# Altium footprint library ADP_Passive.PcbLib: 48 footprints (part 1 of 3)
Each footprint in its own frame and in the unit in brackets; x right, y up, seen from the top. Pads: shape width x height; smd on the part's side, far side on the other; paste and mask are expansions set on the pad; w line width, h text height; cw(c..) or ccw(c..) is an arc to the next point about the centre after c.
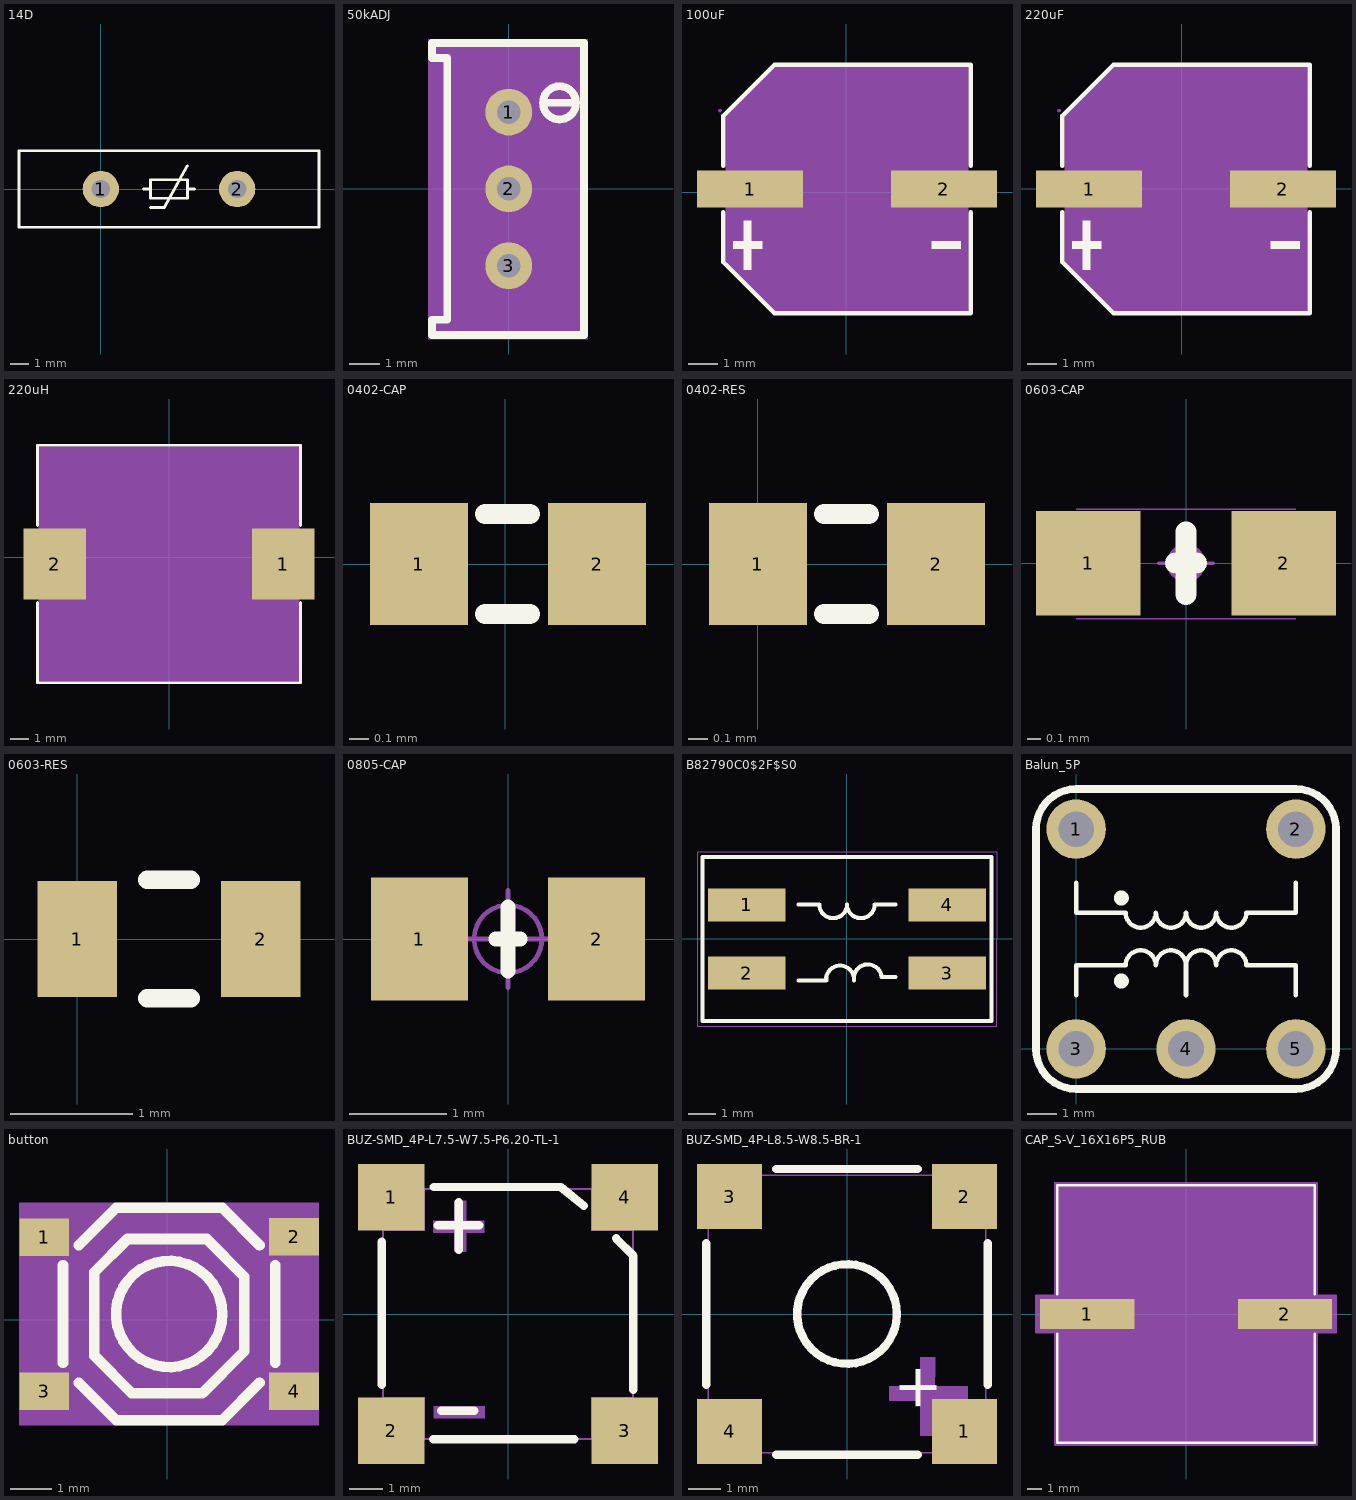
[diagram p0: the footprints below, top view; thin cyan lines are the x and y axes]

## 14D [mm]
pads (2):
  round 2 hole 1: 1(0,0) 2(7.5,0)
Top Overlay:
  lines w0.152: 2.353,0 2.734,0 ; 2.734,-1.016 3.496,-1.016 4.766,1.27 ; 4.766,0 5.147,0 ; -4.5,-2.1 -4.5,2.1 12,2.1 12,-2.1 -4.5,-2.1 ; 2.734,-0.508 4.766,-0.508 4.766,0.508 2.734,0.508 2.734,-0.508

## 50kADJ [mil]
pads (3):
  round 60 hole 30: 1(0,98.42) 2(0,0) 3(0,-98.42)
Top Overlay:
  lines w10: 50,110.39 65,110.39 ; 86.2,109.99 cw(c64.99,110.19) 86.2,110.4 ; 96.46,-187.22 -96.46,-187.22 -98.42,-187.22 -98.42,-167.52 -78.74,-167.52 -78.74,167.52 -98.42,167.52 -98.42,187.01 -96.46,187.01 96.46,187.01 96.46,-187.01 ; 65,110.39 80,110.39 65,110.39
Mechanical 4:
  region: -103.42,192.01 101.46,192.01 101.46,-192.22 -103.42,-192.22
Mechanical 5:
  region: -30,-68.42 30,-68.42 30,-128.43 -30,-128.43
  region: -30,128.43 30,128.43 30,68.42 -30,68.42
  region: -30,30 30,30 30,-30 -30,-30
Mechanical 15:
  lines w0.1: -1.98,14.34 0.02,16.34

## 100uF [mm]
pads (2):
  rect 3.61x1.26 smd: 1(-3.275,0.111) 2(3.315,0.111)
Top Overlay:
  region: -3.483,-0.968 -3.483,-2.628 -3.234,-2.628 -3.234,-0.968
  region: -3.856,-1.673 -3.856,-1.922 -2.86,-1.922 -2.86,-1.673
  region: 3.896,-1.673 3.896,-1.922 2.9,-1.922 2.9,-1.673
  lines w0.152: -4.181,-0.671 -4.181,-2.379 -2.445,-4.115 4.221,-4.115 4.221,-0.671 ; -4.181,0.894 -4.181,2.601 -2.445,4.338 4.221,4.338 4.221,0.894
Mechanical 4:
  region: 4.145,4.261 4.145,-4.039 -2.445,-4.039 -4.105,-2.379 -4.105,2.601 -2.445,4.261
Mechanical 5:
  region: -4.48,0.561 -4.48,-0.339 -1.53,-0.339 -1.53,0.561
  region: 4.52,0.561 4.52,-0.339 1.57,-0.339 1.57,0.561
Mechanical 6:
  circle w0.06: c-4.298,2.778 r0.03
Mechanical 15:
  region: -3.483,0.941 -3.483,-0.719 -3.234,-0.719 -3.234,0.941
  region: -3.856,0.236 -3.856,-0.013 -2.86,-0.013 -2.86,0.236
  region: 3.896,0.236 3.896,-0.013 2.9,-0.013 2.9,0.236

## 220uF [mm]
pads (2):
  rect 3.61x1.26 smd: 1(-3.148,-0.016) 2(3.442,-0.016)
Top Overlay:
  region: -3.356,-1.095 -3.356,-2.755 -3.107,-2.755 -3.107,-1.095
  region: -3.729,-1.8 -3.729,-2.049 -2.733,-2.049 -2.733,-1.8
  region: 4.023,-1.8 4.023,-2.049 3.027,-2.049 3.027,-1.8
  lines w0.152: -4.054,-0.798 -4.054,-2.506 -2.318,-4.242 4.348,-4.242 4.348,-0.798 ; -4.054,0.767 -4.054,2.474 -2.318,4.211 4.348,4.211 4.348,0.767
Mechanical 4:
  region: 4.272,4.134 4.272,-4.166 -2.318,-4.166 -3.978,-2.506 -3.978,2.474 -2.318,4.134
Mechanical 5:
  region: -4.353,0.434 -4.353,-0.466 -1.403,-0.466 -1.403,0.434
  region: 4.647,0.434 4.647,-0.466 1.697,-0.466 1.697,0.434
Mechanical 6:
  circle w0.06: c-4.171,2.651 r0.03
Mechanical 15:
  region: -3.356,0.814 -3.356,-0.846 -3.107,-0.846 -3.107,0.814
  region: -3.729,0.109 -3.729,-0.14 -2.733,-0.14 -2.733,0.109
  region: 4.023,0.109 4.023,-0.14 3.027,-0.14 3.027,0.109

## 220uH [mm]
pads (2):
  rect 3.424x3.92 smd: 1(6.267,-0.383) 2(-6.289,-0.383)
Top Overlay:
  lines w0.152: -7.237,-2.495 -7.237,-6.909 7.215,-6.909 7.215,-2.495 ; -7.237,1.73 -7.237,6.144 7.215,6.144 7.215,1.73
Mechanical 4:
  region: -7.161,-6.833 -7.161,6.067 7.139,6.067 7.139,-6.833
Mechanical 5:
  region: 7.139,-2.133 7.139,1.367 4.639,1.367 4.639,-2.133
  region: -7.161,-2.133 -7.161,1.367 -4.661,1.367 -4.661,-2.133
Mechanical 6:
  circle w0.06: c-7.161,-6.833 r0.03
Mechanical 15:
  lines w0.003: -0.036,0.006 0.014,0.056

## 0402-CAP [mm] "无极性贴片电容"
height 0.5
pads (2):
  rect 0.5x0.62 smd: 1(-0.44,0) 2(0.47,0)
Top Overlay:
  lines w0.102: -0.102,-0.254 0.127,-0.254 ; -0.102,0.254 0.127,0.254
3D body "CAPCP1005X05N.step": height 0.5, standoff 0, extent -0.525,-0.275 0.525,0.275

## 0402-RES [mm] "Chip Resistor, 2-Leads, Body 1.00x0.50mm, IPC Medium Density"
height 0.5
pads (2):
  rect 0.5x0.62 smd: 1(0,0) 2(0.91,0)
Top Overlay:
  lines w0.102: 0.338,-0.254 0.567,-0.254 ; 0.338,0.254 0.567,0.254
3D body "RESC1005X05N.step": height 0.5, standoff 0, extent -0.072,-0.275 0.978,0.275

## 0603-CAP [mil] "无极性贴片电容"
pads (2):
  rect 30x30 smd mask+2: 1(-28,0) 2(28,0)
Top Overlay:
  lines w6: -3,0 0,0 3,0 ; 0,-9 0,9
Mechanical 13:
  lines w0.39: -31.5,-16 31.5,-16 ; -31.5,15.5 31.5,15.5
Mechanical 15:
  circle w1: c0,0 r5
  lines w1: -7.87,0 7.87,0 ; 0,-7.87 0,7.87
3D body "C 0603.STEP": height 31.89, standoff -0.39, extent -31.5,-16.14 31.5,16.14

## 0603-RES [mm]
height 0.35
pads (2):
  rect 0.65x0.95 smd: 1(0,0) 2(1.5,0)
Top Overlay:
  lines w0.152: 0.572,-0.483 0.928,-0.483 ; 0.572,0.483 0.928,0.483
3D body "0603-res.step": height 0.35, standoff 0, extent -0.125,-0.475 1.625,0.475

## 0805-CAP [mm] "无极性贴片电容"
height 0.5
pads (2):
  rect 1x1.27 smd: 1(-0.914,0) 2(0.914,0)
Top Overlay:
  lines w0.152: -0.127,0 0,0 0.127,0 ; 0,-0.33 0,0.33
Mechanical 15:
  circle w0.05: c0,0 r0.35
  lines w0.05: -0.5,0 0.5,0 ; 0,-0.5 0,0.5
3D body "C 0805.STEP": height 0.51, standoff -0.01, extent -1,-0.61 1,0.61

## B82790C0$2F$S0 [mm]
height 6
pads (4):
  rect 2.85x1.2 smd mask+0.05: 1(-3.675,1.25) 2(-3.675,-1.25) 3(3.675,-1.25) 4(3.675,1.25)
Top Overlay:
  lines w0.013: -5.3,-3 -5.3,3 5.3,3 5.3,-3 -5.3,-3
  lines w0.15: -1.778,-1.524 -0.762,-1.524 cw(c-0.254,-1.485) 0.254,-1.524 0.254,-1.365 cw(c0.76,-1.444) 1.27,-1.4 1.778,-1.4 ; -1.778,1.27 -1.016,1.27 ccw(c-0.508,1.27) 0,1.27 ccw(c0.508,1.27) 1.016,1.27 1.778,1.27 ; -5.3,-3 -5.3,3 5.3,3 5.3,-3 -5.3,-3
Mechanical 1:
  lines w0.013: -5.5,-3.2 -5.5,3.2 5.5,3.2 5.5,-3.2 -5.5,-3.2

## Balun_5P [mm]
pads (5):
  round 2 hole 1.2: 1(0,7.4) 2(7.4,7.4) 3(0,0) 4(3.7,0) 5(7.4,0)
Top Overlay:
  circle w0.3: c1.524,5.08 r0.1
  circle w0.3: c1.524,2.286 r0.1
  lines w0.152: 0,1.811 0,2.811 1.668,2.811 cw(c2.176,2.811) 2.684,2.811 cw(c3.192,2.811) 3.7,2.811 ; 0,5.589 0,4.589 1.668,4.589 ccw(c2.176,4.589) 2.684,4.589 ccw(c3.192,4.589) 3.7,4.589 ccw(c4.208,4.589) 4.716,4.589 ccw(c5.224,4.589) 5.732,4.589 7.4,4.589 7.4,5.589 ; 3.7,1.811 3.7,2.811 ; 7.4,1.811 7.4,2.811 5.732,2.811 ccw(c5.224,2.811) 4.716,2.811 ccw(c4.208,2.811) 3.7,2.811
  lines w0.254: -1.35,0 ccw(c0,0) 0,-1.35 7.4,-1.35 ccw(c7.4,0) 8.75,0 8.75,7.4 ccw(c7.4,7.4) 7.4,8.75 0,8.75 ccw(c0,7.4) -1.35,7.4 -1.35,0

## button [mm]
pads (4):
  rect 1.2x0.9 smd: 1(-2.949,1.986) 2(3.051,1.988) 3(-2.949,-1.713) 4(3.051,-1.713)
Top Overlay:
  circle w0.254: c0.051,0.137 r1.275
  lines w0.254: -2.499,-1.031 -2.499,1.306 ; -2.119,-1.518 -1.224,-2.413 1.326,-2.413 2.221,-1.518 ; -2.119,1.792 -1.224,2.687 1.326,2.687 2.221,1.792 ; 2.601,-1.031 2.601,1.306 ; -1.75,-0.861 -1.75,1.138 -0.95,1.938 0.95,1.938 1.852,1.036 1.852,-0.762 0.851,-1.763 -0.848,-1.763 -1.75,-0.861
Mechanical 4:
  region: -3.556,2.814 3.65,2.814 3.65,-2.54 -3.556,-2.54
Mechanical 5:
  region: 2.451,-1.262 3.65,-1.262 3.65,-2.164 2.451,-2.164
  region: -3.549,-1.262 -2.35,-1.262 -2.35,-2.164 -3.549,-2.164
  region: 2.451,2.438 3.65,2.438 3.65,1.537 2.451,1.537
  region: -3.549,2.436 -2.35,2.436 -2.35,1.537 -3.549,1.537

## BUZ-SMD_4P-L7.5-W7.5-P6.20-TL-1 [mm]
pads (4):
  rect 2x2 smd: 1(-3.5,3.5) 2(-3.5,-3.5) 3(3.5,-3.5) 4(3.5,3.5)
Top Overlay:
  lines w0.254: -3.785,-2.128 -3.785,2.165 ; -2.247,-3.759 1.995,-3.759 ; -2.222,3.81 1.588,3.81 2.269,3.242 ; -2.108,2.667 -0.864,2.667 ; -2.007,-2.895 -1.016,-2.895 ; -1.473,1.931 -1.473,3.353 ; 3.242,2.27 3.759,1.753 3.759,-2.269
Mechanical 6:
  region: -2.235,2.794 -0.711,2.794 -0.711,2.438 -2.235,2.438
  region: -1.612,1.871 -1.612,3.395 -1.256,3.395 -1.256,1.871
  region: -2.225,-2.768 -0.701,-2.768 -0.701,-3.124 -2.225,-3.124
Mechanical 15:
  region: 2.5,-2.5 3.759,-2.5 3.759,-3.734 2.5,-3.734
  region: 2.5,3.734 3.759,3.734 3.759,2.5 2.5,2.5
  region: -3.759,3.734 -2.5,3.734 -2.5,2.5 -3.759,2.5
  region: -3.759,-2.5 -2.5,-2.5 -2.5,-3.734 -3.759,-3.734
  region: -3.699,3.75 -3.7,3.775 -3.735,3.809 -3.784,3.809 -3.819,3.775 -3.819,3.75 -3.819,3.726 -3.784,3.691 -3.735,3.691 -3.7,3.726 -3.699,3.75
  lines w0.051: -3.75,-3.75 -3.75,3.75 3.75,3.75 3.75,-3.75 -3.75,-3.75

## BUZ-SMD_4P-L8.5-W8.5-BR-1 [mm]
pads (4):
  rect 2x2 smd: 1(3.6,-3.6) 2(3.6,3.6) 3(-3.6,3.6) 4(-3.6,-3.6)
Top Overlay:
  circle w0.254: c0,0 r1.529
  lines w0.254: -4.318,-2.169 -4.318,2.169 ; -2.169,-4.318 2.169,-4.318 ; -2.169,4.445 2.168,4.445 ; 4.318,-2.169 4.318,2.168
  text "+" at 2.753,-3.029 h1.33
Mechanical 6:
  region: 1.3,-2.655 1.3,-2.215 3.7,-2.215 3.7,-2.675
  region: 2.68,-3.73 2.24,-3.73 2.24,-1.33 2.7,-1.33
Mechanical 15:
  region: 4.41,-4.35 4.41,-4.325 4.375,-4.29 4.325,-4.29 4.29,-4.325 4.29,-4.35 4.29,-4.375 4.325,-4.41 4.375,-4.41 4.41,-4.375 4.41,-4.35
  region: 4.35,4.35 4.35,3.37 3.98,3 3,3.98 3.025,4.005 3.37,4.35
  region: -4.35,4.35 -3.37,4.35 -3,3.98 -3.98,3 -4.005,3.025 -4.35,3.37
  region: 4.35,-4.35 3.37,-4.35 3,-3.98 3.98,-3 4.005,-3.025 4.35,-3.37
  region: -4.25,-3.27 -3.27,-4.25 -3.005,-3.985 -3.985,-3.005
  lines w0.051: -4.25,-2.75 -3.99,-3.01 -3.01,-3.99 -2.75,-4.25 2.75,-4.25 4.25,-2.75 4.25,2.75 2.75,4.25 -2.75,4.25 -4.25,2.75 -4.25,-2.75

## CAP_S-V_16X16P5_RUB [mil]
pads (2):
  rect 252x79 smd paste+0 mask+0: 1(-264,0) 2(264,0)
Top Overlay:
  lines w6: -343.5,-52.6 -343.5,-343.5 343.5,-343.5 343.5,-52.6 ; -343.5,52.6 -343.5,343.5 343.5,343.5 343.5,52.6
Mechanical 13:
  lines w1: -338.5,-169.25 -169.25,-338.5 ; -338.5,169.25 -169.25,338.5 ; -338.5,-338.5 -338.5,338.5 338.5,338.5 338.5,-338.5 -338.5,-338.5
Mechanical 15:
  region: -348.5,-49.5 -400,-49.5 -400,49.5 -348.5,49.5 -348.5,348.5 348.5,348.5 348.5,49.5 400,49.5 400,-49.5 348.5,-49.5 348.5,-348.5 -348.5,-348.5
  lines w6: -400,-49.5 -348.5,-49.5 -348.5,-348.5 348.5,-348.5 348.5,-49.5 400,-49.5 400,49.5 348.5,49.5 348.5,348.5 -348.5,348.5 -348.5,49.5 -400,49.5 -400,-49.5
3D body "CAP_S-V_16X16P5_RUB.step": height 671.1, standoff 0, extent -370,-338.5 370,338.5